# Altium schematic symbol library Sys_Arossage.SchLib: 31 symbols
Pins are listed as number, name and electrical type; pins without a type are passive.

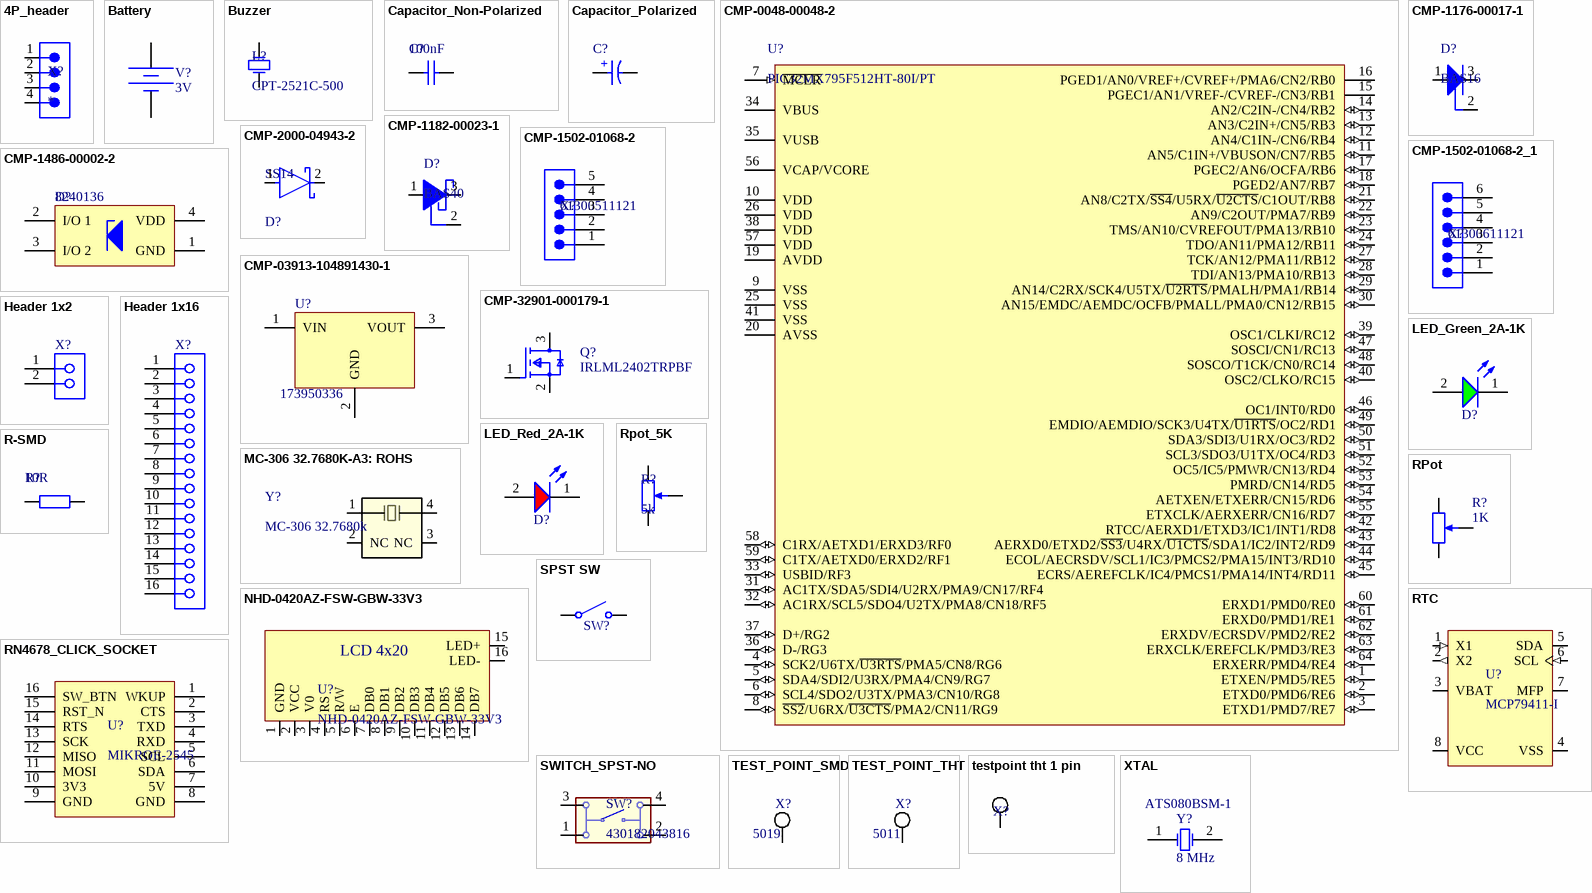
[diagram p0: symbols 4P_header to XTAL]

## 4P_header
designator X?
THT Vertical Pin Header WR-PHD, Pitch 2.54 mm, Single Row, 4 pins; Manufacturer: Wurth Electronics; Manufacturer Part Number: 61300411121; Current Rating: 3A; Operating Supply Voltage: 250V; Number of Positions: 4; Gender: Male; Contact Resistance: 20mR; Pitch: 0.1inch; Supplier: Rs; Supplier Part Number: 8281594P; RoHS: Yes; Category: Headers and Wire Housings; Stock: 2885; Pricing: 250=0.08, 500=0.078, 2500=0.076, 5000=0.074 (CHF); Mounting Technology: Through Hole; Contact Plating: Gold; Contact Material: Copper; Color: Black; Min Operating Temperature: -40°C; Max Operating Temperature: 105°C; Number of Rows: 1; Packaging: Bulk; Termination: Solder; Series: WR-PHD; Orientation: 5495OrientationType; Voltage Rating: 250V; Number of Contacts: 4; Contact Type: Male Pin; Height: 8.89mm; Contact Mating Length: 0.236inch; Lead Free: Lead Free; RoHS Compliant: Yes; Reach SVHC Compliant: Unknown; ComponentLink1URL: http://www.farnell.com/cad/1737268.pdf?src-supplier=Element14; ComponentLink1Description: http://www.farnell.com/cad/1737268.pdf?src-supplier=Element14; ComponentLink2URL: https://datasheet.octopart.com/61300411121-W%C3%BCrth-Elektronik-datasheet-21154836.pdf?src-supplier=Element14; ComponentLink2Description: https://datasheet.octopart.com/61300411121-W%C3%BCrth-Elektronik-datasheet-21154836.pdf?src-supplier=Element14; ComponentLink3URL: https://katalog.we-online.de/em/datasheet/6130xx11121.pdf?src-supplier=Digikey; ComponentLink3Description: https://katalog.we-online.de/em/datasheet/6130xx11121.pdf?src-supplier=Digikey
footprint 61300411121 (Pin Header, pitch 2.54 mm, THT, Vertical, single row, 4p)
pins: 1, 2, 3, 4

## Battery
designator V?, comment DC Magnitude: 3V  (hidden comment: Pile 3V)
SimulationGenericComponent: True
footprint BAT_BU2032SM-HD-G
pins: 1, 2

## Buzzer
designator L?, comment CPT-2521C-500
AUDIO PIEZO TRANSDUCER 50V CHAS; Manufacturer: CUI Devices; Supplier: Digikey; Supplier Part Number: 102-3756-ND; Manufacturer Part Number: CPT-2521C-500; RoHS: No; Category: Buzzers; Stock: 2415; Pricing: 1=5.57, 10=4.594, 30=4.23467, 60=3.97467, 90=3.72456, 450=3.29809 (USD); ComponentLink1URL: https://www.cuidevices.com/product/resource/digikeypdf/cpt-2521c-500.pdf?src-supplier=Digikey; ComponentLink1Description: https://www.cuidevices.com/product/resource/digikeypdf/cpt-2521c-500.pdf?src-supplier=Digikey
footprint 61300211121 (Pin Header, pitch 2.54 mm, THT, Vertical, single row, 2p)
pins: 1, 2

## Capacitor_Non-Polarized
designator C?, comment 100nF
Capacité: 100nF
footprint CAPC2013X145X48NL20T23 (Chip Capacitor, 2-Leads, Body 2.00x1.25mm, IPC Medium Density)
pins: 1, 2

## Capacitor_Polarized
designator C?
pins: 1 P, 2 N
text: +

## CMP-0048-00048-2
designator U?, comment PIC32MX795F512HT-80I/PT
High Performance 80 MHz MIPS-Based 32-Bit Flash Microcontroller with USB, CAN and Ethernet, 512KB Program Memory, 64-pin TQFP, Industrial Temperature, Tape and Reel; Code_JEDEC: MS-026; DatasheetVersion: revG, May-2011; ComponentLink1Description: Datasheet; PackageReference: TQFP-PT64; PackageVersion: revBB, Aug-2009; ComponentLink1URL: http://ww1.microchip.com/downloads/en/DeviceDoc/61156G.pdf; ComponentLink2URL: http://ww1.microchip.com/downloads/en/PackagingSpec/en012702.pdf; ComponentLink3Description: Microchip.com Home; RevisionNote: Component URLs added. DatasheetVersion updated. Pin names updated.; ComponentLink2Description: Packaging Specification; PackageDescription: 64-Lead Thin Plastic Quad Flat Pack (PT) - 10x10x1mm Body, 2.00mm [TQFP]; ComponentLink3URL: http://www.microchip.com/
footprint TQFP-PT64_L (Thin QFP, 64-Leads, Body 10x10mm, Pitch 0.5mm, IPC High Density)
pins: 1 ETXEN/PMD5/RE5 (io), 2 ETXD0/PMD6/RE6 (io), 3 ETXD1/PMD7/RE7 (io), 4 SCK2/U6TX/~{U3RTS}/PMA5/CN8/RG6 (io), 5 SDA4/SDI2/U3RX/PMA4/CN9/RG7 (io), 6 SCL4/SDO2/U3TX/PMA3/CN10/RG8 (io), 7 ~{MCLR} (in), 8 ~{SS2}/U6RX/~{U3CTS}/PMA2/CN11/RG9 (io), 9 VSS, 10 VDD, 11 AN5/C1IN+/VBUSON/CN7/RB5 (io), 12 AN4/C1IN-/CN6/RB4 (io), 13 AN3/C2IN+/CN5/RB3 (io), 14 AN2/C2IN-/CN4/RB2 (io), 15 PGEC1/AN1/VREF-/CVREF-/CN3/RB1 (power), 16 PGED1/AN0/VREF+/CVREF+/PMA6/CN2/RB0 (power), 17 PGEC2/AN6/OCFA/RB6 (io), 18 PGED2/AN7/RB7 (io), 19 AVDD, 20 AVSS, 21 AN8/C2TX/~{SS4}/U5RX/~{U2CTS}/C1OUT/RB8 (io), 22 AN9/C2OUT/PMA7/RB9 (io), 23 TMS/AN10/CVREFOUT/PMA13/RB10 (io), 24 TDO/AN11/PMA12/RB11 (io), 25 VSS, 26 VDD, 27 TCK/AN12/PMA11/RB12 (io), 28 TDI/AN13/PMA10/RB13 (io), 29 AN14/C2RX/SCK4/U5TX/~{U2RTS}/PMALH/PMA1/RB14 (io), 30 AN15/EMDC/AEMDC/OCFB/PMALL/PMA0/CN12/RB15 (io), 31 AC1TX/SDA5/SDI4/U2RX/PMA9/CN17/RF4 (io), 32 AC1RX/SCL5/SDO4/U2TX/PMA8/CN18/RF5 (io), 33 USBID/RF3 (io), 34 VBUS, 35 VUSB, 36 D-/RG3 (io), 37 D+/RG2 (io), 38 VDD, 39 OSC1/CLKI/RC12 (io), 40 OSC2/CLKO/RC15 (io), 41 VSS, 42 RTCC/AERXD1/ETXD3/IC1/INT1/RD8 (io), 43 AERXD0/ETXD2/~{SS3}/U4RX/~{U1CTS}/SDA1/IC2/INT2/RD9 (io), 44 ECOL/AECRSDV/SCL1/IC3/PMCS2/PMA15/INT3/RD10 (io), 45 ECRS/AEREFCLK/IC4/PMCS1/PMA14/INT4/RD11 (io), 46 OC1/INT0/RD0 (io), 47 SOSCI/CN1/RC13 (io), 48 SOSCO/T1CK/CN0/RC14 (io), 49 EMDIO/AEMDIO/SCK3/U4TX/~{U1RTS}/OC2/RD1 (io), 50 SDA3/SDI3/U1RX/OC3/RD2 (io), 51 SCL3/SDO3/U1TX/OC4/RD3 (io), 52 OC5/IC5/PMWR/CN13/RD4 (io), 53 PMRD/CN14/RD5 (io), 54 AETXEN/ETXERR/CN15/RD6 (io), 55 ETXCLK/AERXERR/CN16/RD7 (io), 56 VCAP/VCORE, 57 VDD, 58 C1RX/AETXD1/ERXD3/RF0 (io), 59 C1TX/AETXD0/ERXD2/RF1 (io), 60 ERXD1/PMD0/RE0 (io), 61 ERXD0/PMD1/RE1 (io), 62 ERXDV/ECRSDV/PMD2/RE2 (io), 63 ERXCLK/EREFCLK/PMD3/RE3 (io), 64 ERXERR/PMD4/RE4 (io)

## CMP-1176-00017-1
designator D?, comment BAS16
Silicon Switching Diode, SOT23, Reel, Green; Manufacturer: Infineon; VR (max): 80Â V; VBR (min): 85Â V; Configuration: Single; Green: TRUE; VF (max): 1.25Â V; trr (max): 4Â ns; IF (max): 250Â mA; IR (max): 100Â nA; ComponentLink3Description: Package Specification; PackageVersion: Apr-08; PackageReference: SOT23; ComponentLink2URL: http://www.infineon.com/dgdl/bas16series.pdf?folderId=db3a30431400ef6801141b5844e103ea&fileId=db3a30431400ef6801141b93811b03ff; Mounting Technology: Surface Mount; PartNumber: BAS16; ComponentLink2Description: Datasheet; ComponentLink1Description: Manufacturer URL; ComponentLink1URL: http://www.infineon.com/; ComponentLink3URL: http://www.infineon.com/dgdl/SOT23-Package_Overview.pdf?folderId=db3a30431936bc4b0119532290053c66&fileId=db3a30431936bc4b0119533468123c85; PackageDescription: 3-Pin Small Outline Transistor Package, 1.3 x 2.9 mm Body, 0.95 mm Pitch
footprint INF-SOT23_M (SOT23, 3-Leads, Body 2.9x1.3 mm, Pitch 0.95 mm, IPC Low Density)
pins: 1 A, 2 NC, 3 K

## CMP-1182-00023-1
designator D?, comment BAS40
Silicon Schottky Diode, -55 to 150 degC, SOT23, Reel, Green; Manufacturer: Infineon; IF (max): 120Â mA; Configuration: Single; VR (max): 40Â V; Green: TRUE; VF (max): 1,000Â mV; CT (max): 5Â pF; PackageDescription: 3-Pin Small Outline Transistor Package, 1.3 x 2.9 mm Body, 0.95 mm Pitch; ComponentLink3Description: Package Specification; Mounting Technology: Surface Mount; PackageVersion: Apr-08; ComponentLink1Description: Manufacturer URL; ComponentLink1URL: http://www.infineon.com/; ComponentLink2URL: http://www.infineon.com/dgdl/bas40_bas140series.pdf?folderId=db3a30431400ef68011425f1ca2505e3&fileId=db3a304314dca389011518a57ed20e11; PartNumber: BAS40; ComponentLink2Description: Datasheet; PackageReference: SOT23; ComponentLink3URL: http://www.infineon.com/dgdl/SOT23-Package_Overview.pdf?folderId=db3a30431936bc4b0119532290053c66&fileId=db3a30431936bc4b0119533468123c85; Packing: Reel
footprint INF-SOT23_M (SOT23, 3-Leads, Body 2.9x1.3 mm, Pitch 0.95 mm, IPC Low Density)
pins: 1 A, 2 NC, 3 K

## CMP-1486-00002-2
designator D?, comment 8240136
NexarPartId: 18190099; Max Breakdown Voltage: 4.5V; Number of Channels: 2; Max Reverse Leakage Current: 5A; Element Configuration: Dual; Capacitance: 3pF; Working Voltage: 3.3V; Max Surge Current: 12A; Power Line Protection: Yes; Clamping Voltage: 6V; Leakage Current: 5µA; Test Current: 1mA; Polarity: Bidirectional; Direction: Unidirectional; Operating Supply Voltage: 3.8V; Breakdown Voltage: 4.5V; Mount: Surface Mount; Height: 1.06mm; Min Operating Temperature: -55°C; Termination: SMD/SMT; Reverse Standoff Voltage: 3.3V; Case/Package: SOT-143; Length: 2.92mm; Min Breakdown Voltage: 4.5V; Peak Pulse Current: 12A; Max Operating Temperature: 125°C; REACH SVHC: Unknown; ESD Protection: Yes; RoHS: Compliant; Number of Pins: 4; Width: 2.4mm; Packaging: Digi-Reel®; Number of Bidirectional Channels: 2
footprint WE-TVS_SOT143-4L (TVS Diode, package SOT143-4L)
pins: 1 GND, 2 I/O 1, 3 I/O 2, 4 VDD

## CMP-1502-01068-2
designator X?, comment 61300511121
NexarPartId: 32855526; Operating Supply Voltage: 250V; Number of Contacts: 5; Connector Type: Male Pin; Current Rating: 3A; Contact Resistance: 20mΩ; Pitch: 2.54mm; Gender: Male; Termination: Solder; RoHS: Compliant; Lead Pitch: 2.54mm; Contact Mating Length: 5.9944mm; Number of Positions: 5; Lead Free: Lead Free; Contact Plating: Gold; Number of Pins: 5; Min Operating Temperature: -40°C; Voltage Rating: 250V; Color: Black; Mount: Through Hole; REACH SVHC: Unknown; Packaging: Bulk; Height: 8.89mm; Number of Rows: 1; Orientation: Vertical; Contact Material: Copper; Max Operating Temperature: 105°C
footprint 61300511121 (Pin Header, pitch 2.54 mm, THT, Vertical, single row, 5p)
pins: 1, 2, 3, 4, 5

## CMP-1502-01068-2_1
designator X?, comment 61300611121
THT Vertical Pin Header WR-PHD, Pitch 2.54 mm, Single Row, 6 pins; NexarPartId: 32855526; Manufacturer: Wurth Electronics; Operating Supply Voltage: 250V; Number of Contacts: 5; Connector Type: Male Pin; Current Rating: 3A; Contact Resistance: 20mΩ; Pitch: 2.54mm; Gender: Male; Termination: Solder; RoHS: Compliant; Lead Pitch: 2.54mm; Contact Mating Length: 5.9944mm; Number of Positions: 5; Lead Free: Lead Free; Contact Plating: Gold; Number of Pins: 5; Min Operating Temperature: -40°C; Voltage Rating: 250V; Color: Black; Mount: Through Hole; REACH SVHC: Unknown; Packaging: Bulk; Height: 8.89mm; Number of Rows: 1; Orientation: Vertical; Contact Material: Copper; Max Operating Temperature: 105°C; Supplier 1: Rs; Manufacturer Part Number: 61300611121; Category: Headers and Wire Housings; Stock 1: 2555; Pricing 1: 125=0,153, 500=0,149, 2500=0,147, 5000=0,141 (CHF); Housing Material: PBT; Contact Gender: Male; Series: WR-PHD; Contact Type: Male Pin; RoHS Compliant: Yes; Reach SVHC Compliant: Unknown; ComponentLink1URL: http://www.mouser.com/ds/2/445/6130xx11121-538006.pdf?src-supplier=Mouser; ComponentLink1Description: http://www.mouser.com/ds/2/445/6130xx11121-538006.pdf?src-supplier=Mouser; ComponentLink2URL: http://www.farnell.com/cad/1737268.pdf?src-supplier=Element14; ComponentLink2Description: http://www.farnell.com/cad/1737268.pdf?src-supplier=Element14; ComponentLink3URL: https://datasheet.octopart.com/61300611121-W%C3%BCrth-Elektronik-datasheet-21154836.pdf?src-supplier=Element14; ComponentLink3Description: https://datasheet.octopart.com/61300611121-W%C3%BCrth-Elektronik-datasheet-21154836.pdf?src-supplier=Element14; ComponentLink4URL: https://katalog.we-online.de/em/datasheet/6130xx11121.pdf?src-supplier=Digikey; ComponentLink4Description: https://katalog.we-online.de/em/datasheet/6130xx11121.pdf?src-supplier=Digikey
footprint 61300611121 (Pin Header, pitch 2.54 mm, THT, Vertical, single row, 6p)
pins: 1, 2, 3, 4, 5, 6

## CMP-2000-04943-2
designator D?, comment SS14
DIODE SCHOTTKY 40V 1A SMA; Manufacturer: ON Semiconductor; Peak Reverse Current: 0.2mA; Max Junction Temp: +125°C; Standoff Height: 0.05mm; Max Surge Forward Current: 40A; Mouser Description: Schottky Diodes & Rectifiers SMA 40V 1.0A; RoHS: TRUE; Lead Free: Yes; Manufacturer Part Number: SS14; Device Class L3: Schottky Diodes; Category: Diode; Automotive: No; Digikey Description: DIODE SCHOTTKY 40V 1A SMA; ComponentLink2Description: Datasheet; Device Class L2: Diodes; Height: 2.5mm; Temperature Range High: +125°C; ComponentLink2URL: https://www.onsemi.com/pub/Collateral/SS19-D.PDF; Device Class L1: Discrete Semiconductors; Package: 403AE; Octopart: https://octopart.com/ss14-on+semiconductor-29205033; Max Repetitive Reverse Voltage: 40V; Temperature Range Low: -65°C; Forward Current: 1A; Temperature: -65°C to +125°C
footprint FP-403AE-MFG
pins: 1 A, 2 C

## CMP-03913-104891430-1
designator U?, comment 173950336
173950336 WPME-FDSM Fixed Step Down Regulator Module; NexarPartId: 104891430; Manufacturer: Wurth Electronics; Output Current: 500mA; Max Switching Frequency: 520kHz; Min Input Voltage: 4.75V; Max Input Voltage: 36V; Max Output Voltage: 3.3V; Min Operating Temperature: -40°C; Height: 10.16mm; Ambient Temperature Range Low: -40°C; Max Operating Temperature: 125°C; Length: 11.6mm; Width: 7.55mm; Ambient Temperature Range High: 85°C; RoHS: Compliant; Manufacturer Part Number: 173950336
footprint WPME-FDSM_SIP-3_L11.6W7.55H10.16 (Fixed Step Down Regulator Module, SIP-3, body 11.60x7.55mm)
pins: 1 VIN, 2 GND, 3 VOUT

## CMP-32901-000179-1
designator Q?, comment IRLML2402TRPBF
MOSFET N-CH 20V 1.2A SOT-23; Manufacturer: Infineon; Max Power Dissipation: 540mW; Gate to Source Voltage (Vgs): 12V; Drain to Source Resistance: 350mR; Rise Time: 9.5ns; Threshold Voltage: 700mV; Turn-On Delay Time: 2.5ns; Input Capacitance: 110pF; Element Configuration: Single; Power Dissipation: 540W; Turn-Off Delay Time: 9.7ns; Rds On Max: 250mR; REACH SVHC: No SVHC; Mount: Surface Mount; Packaging: Tape and Reel; Height: 0.04inch; Drain to Source Voltage (Vdss): 20V; Length: 0.119inch; Contact Plating: Tin; Continuous Drain Current (ID): 1.2A; Lead Free: Lead Free; Drain to Source Breakdown Voltage: 20V; Max Dual Supply Voltage: 20V; Number of Pins: 3; Halogen Free: Halogen Free; Max Operating Temperature: 150°C; Case/Package: SOT-23; Min Operating Temperature: -55°C; Width: 0.055inch; Manufacturer Part Number: IRLML2402TRPBF
footprint FP-Micro3-IPC_C
pins: 1 G, 2 S, 3 D

## Header 1x2
designator X?
Conn Terminal Block 2 POS 3.5mm Solder ST Thru-Hole 10A Box; Manufacturer: Wurth Electronics; Manufacturer Part Number: 691214110002; Plating: Brass,Steel; Number of Levels: 1; Number of Positions Per Level: 2; Voltage: 300V; Wire Gauge (Max): 24AWG; Wire Gauge (Min): 16AWG; Stripping Length: -6mm; Supplier: Rs; Supplier Part Number: 8267295; RoHS: Yes; Category: Terminal Blocks; Stock: 313; Pricing: 1=0.924, 10=0.819, 50=0.756, 500=0.672, 1000=0.619 (CHF); Mounting Technology: Through Hole; Color: Blue,Green; Contact Plating: Brass,Tin; Housing Material: PA66; Contact Material: Brass; Min Operating Temperature: -40°C; Max Operating Temperature: 105°C; Current: 10A; Termination: Screw; Series: WR-TBL Series 2141; Voltage Rating: 300V; Current Rating: 10A; Number of Contacts: 2; Number of Rows: 1NUMBER; Length: 7.4mm; Width: 7.9mm; Height: 12.2mm; Wire/Cable Gauge: 24AWG; Pitch: 3.5mm; RoHS Compliant: Yes; Reach SVHC Compliant: Unknown; ComponentLink1URL: https://datasheet.ciiva.com/824/6912141100xx-824001.pdf?src-supplier=Digikey; ComponentLink1Description: https://datasheet.ciiva.com/824/6912141100xx-824001.pdf?src-supplier=Digikey; ComponentLink2URL: https://datasheet.ciiva.com/48693/001088618-da-01-en-wr-tbl-terminal-block2141-691214110002-48693195.pdf?src-supplier=Conrad; ComponentLink2Description: https://datasheet.ciiva.com/48693/001088618-da-01-en-wr-tbl-terminal-block2141-691214110002-48693195.pdf?src-supplier=Conrad
footprint 691214110002 (3.50 mm Horizontal Entry Modular, 2p)
pins: 1, 2

## Header 1x16
designator X?
Conn Header Vert 16POS 2.54MM; Manufacturer: Sullins; Manufacturer Part Number: PEC16SAHN; Number of Positions: 16; Gender: Male; Supplier: Digikey; Supplier Part Number: S1082E-16-ND; RoHS: Yes; Category: Connectors; Pricing: 1=1.81, 10=1.579, 100=1.4107, 500=1.17562, 1000=1.00767, 5000=0.95969 (USD); Mounting Technology: Through Hole; Housing Color: Black; Contact Material: Bronze; Housing Material: Plastic; Contact Shape: Square; Contact Finish - Mating: TIN; Insulation Material: PBT; Insulation Color: Black; Min Operating Temperature: -65°C; Max Operating Temperature: 125°C; Number of Rows: 1; Packaging: Bulk; Termination: Solder; Number of Contacts: 16; Contact Type: Male Pin; Series: -; Fastening Type: Pull; Length: 40.6mm; Width: 2.54mm; Height: 2.54mm; Lead Free: Lead Free; RoHS Compliant: Yes; Flammability Rating: UL94 V-0; ComponentLink1URL: http://www.sullinscorp.com/catalogs/77_PAGE108-109_.100_MALE_HDR.pdf?src-supplier=Digikey; ComponentLink1Description: http://www.sullinscorp.com/catalogs/77_PAGE108-109_.100_MALE_HDR.pdf?src-supplier=Digikey
pins: 1, 2, 3, 4, 5, 6, 7, 8, 9, 10, 11, 12, 13, 14, 15, 16

## LED_Green_2A-1K
designator D?  (value not drawn)
LED Uni-Color Green 515nm 2-Pin SMD T/R; Manufacturer: Kingbright; Manufacturer Part Number: APHCM2012ZGCK-F01; Lens Color: Colorless; Lens Style: Flat; Lens Transparency: Clear; Luminous Intensity: 350mcd; Forward Voltage: 3.3V; Test Current: 20mA; Viewing Angle: 110°; Dominant Wavelength: 525nm; Lens Size: 1.2mm; Supplier: Digikey; Supplier Part Number: 754-2120-1-ND; RoHS: Yes; Category: LEDs; Stock: 17088; Pricing: 1=0.51, 10=0.311, 100=0.1789, 1000=0.13999 (USD); Mounting Technology: Surface Mount; Case/Package: 0805; Color: Green; Case Code (Imperial): 0805; Case Code (Metric): 2012; Packaging: Cut Tape; Series: -; Length: 2mm; Width: 1.25mm; Height: 0.5mm; RoHS Compliant: Yes; ComponentLink1URL: http://www.kingbrightusa.com/images/catalog/SPEC/APHCM2012ZGCK-F01.pdf?src-supplier=Digikey; ComponentLink1Description: http://www.kingbrightusa.com/images/catalog/SPEC/APHCM2012ZGCK-F01.pdf?src-supplier=Digikey
footprint LEDC2012X75N
pins: 1 K, 2 A

## LED_Red_2A-1K
designator D?  (value not drawn)
LED Uni-Color Hyper Red 640nm 2-Pin Chip LED T/R; Manufacturer: Kingbright; Manufacturer Part Number: APT2012SECK/J3-PRV; Lens Color: Colorless; Forward Current: 20mA; Forward Voltage: 2.2V; Luminous Intensity: 350mcd; Viewing Angle: 120°; Lens Transparency: Clear; Dominant Wavelength: 625nm; Lens Style: Flat; Lens Size: 1.25mm; Supplier: Digikey; Supplier Part Number: 754-1791-1-ND; RoHS: Yes; Category: LEDs; Stock: 46358; Pricing: 1=0.6, 10=0.368, 100=0.2114, 1000=0.16544 (USD); Mounting Technology: Surface Mount; Case/Package: 0805; Case Code (Metric): 2012; Case Code (Imperial): 0805; Color: Red; Min Operating Temperature: -40°C; Max Operating Temperature: 85°C; Illumination Color: Red; Packaging: Tape and Reel; Package Quantity: 1; Test Current: 20mA; Series: HELI2; Length: 2mm; Width: 1.25mm; Height: 0.75mm; Lead Free: Lead Free; RoHS Compliant: Yes; ComponentLink1URL: https://datasheet.ciiva.com/24022/apt2012seck-j3-prv-262303-24022777.pdf?src-supplier=Mouser; ComponentLink1Description: https://datasheet.ciiva.com/24022/apt2012seck-j3-prv-262303-24022777.pdf?src-supplier=Mouser; ComponentLink2URL: https://datasheet.ciiva.com/29562/apt2012seck-j3-prv-29562108.pdf?src-supplier=Digikey; ComponentLink2Description: https://datasheet.ciiva.com/29562/apt2012seck-j3-prv-29562108.pdf?src-supplier=Digikey
footprint LEDC2012X75N
pins: 1 K, 2 A

## MC-306 32.7680K-A3: ROHS
designator Y?, comment MC-306 32.7680k
CRYSTAL 32.7680KHZ 12.5PF SMD; Mfr_Name: Epson; Manufacturer_Part_Number: MC-306 32.7680K-A3: ROHS; Manufacturer Part Number: MC-30632.7680K-A3:ROHS; Copyright: Copyright (C) 2024 Ultra Librarian. All rights reserved.; RefDes: RefDes; Type: DEV; Supplier: Digikey; Supplier Part Number: SER4306CT-ND; Manufacturer: Epson; RoHS: Yes; Category: Crystals; Stock: 10888; Pricing: 1=2.61, 10=2.545, 50=2.424, 100=2.121 (USD); ComponentLink1URL: https://datasheet.ciiva.com/26941/getdatasheetpartid-777847-26941728.pdf?src-supplier=Verical; ComponentLink1Description: https://datasheet.ciiva.com/26941/getdatasheetpartid-777847-26941728.pdf?src-supplier=Verical
footprint SOJ_MC-306_EPS-M
pins: 1, 2 NC, 3 NC, 4

## NHD-0420AZ-FSW-GBW-33V3
designator U?
Character Display STN Transflective 20Char x 4Line 16-Pin; Manufacturer: Newhaven Display; Supplier: Digikey; Supplier Part Number: NHD-0420AZ-FSW-GBW-33V3-ND; Manufacturer Part Number: NHD-0420AZ-FSW-GBW-33V3; RoHS: Yes; Stock: 4272; Pricing: 1=22, 5=20.68, 10=19.36, 50=18.26, 100=17.3801, 250=16.50004, 500=15.84006 (USD); ComponentLink1URL: https://datasheet.ciiva.com/2102/nhd-0420az-fsw-gbw-33v3-2102502.pdf?src-supplier=Digikey; ComponentLink1Description: https://datasheet.ciiva.com/2102/nhd-0420az-fsw-gbw-33v3-2102502.pdf?src-supplier=Digikey; ComponentLink2URL: https://datasheet.ciiva.com/30249/6nhd-0420az-fsw-gbw-33v3-30249785.pdf?src-supplier=Onlinecomponents.com; ComponentLink2Description: https://datasheet.ciiva.com/30249/6nhd-0420az-fsw-gbw-33v3-30249785.pdf?src-supplier=Onlinecomponents.com; ComponentLink3URL: https://datasheet.ciiva.com/24396/6nhd-0420az-fsw-gbw-33v3-24396711.pdf?src-supplier=Onlinecomponents.com; ComponentLink3Description: https://datasheet.ciiva.com/24396/6nhd-0420az-fsw-gbw-33v3-24396711.pdf?src-supplier=Onlinecomponents.com; ComponentLink4URL: https://datasheet.ciiva.com/49271/70518142-49271835.pdf?src-supplier=Allied+Electronics; ComponentLink4Description: https://datasheet.ciiva.com/49271/70518142-49271835.pdf?src-supplier=Allied+Electronics
footprint NHD-0420AZ-FSW-GBW-33V3
pins: 1 GND, 2 VCC, 3 V0, 4 RS, 5 R/W, 6 E, 7 DB0, 8 DB1, 9 DB2, 10 DB3, 11 DB4, 12 DB5, 13 DB6, 14 DB7, 15 LED+ "ANODE", 16 LED- "CATHODE"
text: LCD 4x20

## R-SMD
designator R?, comment 10R
SMD Chip Resistor, 10 kOhm, ± 1%, 125 mW, 0805 [2012 Metric], Thick Film, General Purpose; Manufacturer: Yageo; Manufacturer Part Number: RC0805FR-0710KL; Value: 10kR; Temperature Coefficient: 100ppm/°C; Power Rating: 125mW; Voltage Rating: 150V; Supplier: Rs; Supplier Part Number: 6185163; RoHS: Yes; Category: Chip SMD Resistors; Stock: 360000; Pricing: 1=24.917 (CHF); Case/Package: 0805; Case Code (Imperial): 0805; Case Code (Metric): 2012; Min Operating Temperature: -55°C; Max Operating Temperature: 155°C; Packaging: Tape and Reel; Tolerance: 1%; Resistor Type: Thick Film; Package Quantity: 1; Termination: SMD/SMT; Number of Terminations: 2; Max Power Dissipation: 125mW; Features: Moisture Resistant; Series: RC; Construction: Rectangular; Resistance Tolerance: 1%; Technology: THICK FILM; Voltage Rating (AC): 150V; Length: 0.079inch; Width: 0.049inch; Height: 0.024inch; Depth: 1.25mm; Lead Free: Lead Free; Reach SVHC Compliant: Unknown; Military Standard: Not; RoHS Compliant: Yes; ComponentLink1URL: https://datasheet.ciiva.com/11808/0900766b8106beab-11808151.pdf?src-supplier=Rs; ComponentLink1Description: https://datasheet.ciiva.com/11808/0900766b8106beab-11808151.pdf?src-supplier=Rs; ComponentLink2URL: https://datasheet.ciiva.com/46447/444164-46447563.pdf?src-supplier=Element14; ComponentLink2Description: https://datasheet.ciiva.com/46447/444164-46447563.pdf?src-supplier=Element14; ComponentLink3URL: https://datasheet.ciiva.com/2456/pyu-r-int-thick-7-2456973.pdf?src-supplier=Digikey; ComponentLink3Description: https://datasheet.ciiva.com/2456/pyu-r-int-thick-7-2456973.pdf?src-supplier=Digikey; ComponentLink4URL: https://datasheet.ciiva.com/2456/pyu-r-int-thick-7-2456974.pdf?src-supplier=Digikey; ComponentLink4Description: https://datasheet.ciiva.com/2456/pyu-r-int-thick-7-2456974.pdf?src-supplier=Digikey; ComponentLink5URL: https://datasheet.ciiva.com/2456/pyu-r-int-thick-7-2456972.pdf?src-supplier=Digikey; ComponentLink5Description: https://datasheet.ciiva.com/2456/pyu-r-int-thick-7-2456972.pdf?src-supplier=Digikey; ComponentLink6URL: https://datasheet.ciiva.com/12669/rc0805-12669688.pdf?src-supplier=Mouser; ComponentLink6Description: https://datasheet.ciiva.com/12669/rc0805-12669688.pdf?src-supplier=Mouser
footprint RESC2012X60N
pins: 1, 2

## RN4678_CLICK_SOCKET
designator U?, comment MIKROE-2545
RN4678 Click Bluetooth Communications Module; Manufacturer: mikroElektronika; Parameter 1: *; Supplier: Rs; Supplier Part Number: 1683004; Manufacturer Part Number: MIKROE-2545; RoHS: No; Category: RF Semiconductors and Devices; Stock: 16; Pricing: 1=37.013, 2=35.532, 5=33.947, 10=33.065, 25=32.256 (CHF); ComponentLink1URL: https://download.mikroe.com/documents/datasheets/bluetooth-4.2-dual-mode-module-datasheet.pdf?src-supplier=Digikey; ComponentLink1Description: https://download.mikroe.com/documents/datasheets/bluetooth-4.2-dual-mode-module-datasheet.pdf?src-supplier=Digikey
footprint RN4678 CLICK V3
pins: 1 WKUP, 2 CTS, 3 TXD, 4 RXD, 5 SCL, 6 SDA, 7 5V, 8 GND, 9 GND, 10 3V3, 11 MOSI, 12 MISO, 13 SCK, 14 RTS, 15 RST_N, 16 SW_BTN

## RPot
designator R?, comment 1K
In a Tube of 50, 1kO Through Hole Trimmer Potentiometer 0.5W Top Adjust Bourns 3362 Series; Manufacturer Part Number: 3362P-1-102LF; Manufacturer Series: 3362; Tolerance: 10%; Number of Turns: 1; Voltage Rating (AC): 300V; Power Rating: 500mW; Temperature Coefficient: 100ppm/°C; Resistance Law: Linear; Actuator Orientation: Vertical; Actuator Type: SCREW; Lead Diameter: 0.46mm; Resistance: 1kR; Published: 17-Dec-2003; DatasheetVersion: Oct-2003; PackageReference: POT4MM-2; Publisher: Altium Limited; PackageDescription: Square Trimming Potentiometer; ComponentLink1Description: Manufacturer Link; ComponentLink1URL: http://bourns.com/2/search.html; Supplier 1: Arrow Electronics; Manufacturer: Bourns; RoHS: Yes; Category: Variable Resistors and Potentiometers; Stock 1: 2500; Pricing 1: 250=0,5725, 500=0,5525, 1000=0,5024, 2500=0,4458, 10000=0,4425 (USD); Mount: Through Hole,PCB; Number of Pins: 3; Weight: 0.02oz; Terminal Finish: Tin; Color: 48Colour; Min Operating Temperature: -55°C; Max Operating Temperature: 125°C; Packaging: Rail/Tube; Resistor Type: Cermet; Termination: Pin; Series: Trimpot® 3362 - Sealed; Voltage Rating (DC): 300V; Voltage Rating: 300V; Taper: Linear; Max Power Dissipation: 500mW; Type: Potentiometer; Technology: CERMET; Resistance Tolerance: 10%; Package Quantity: 250; Length: 6.6mm; Width: 6.6mm; Height: 0.185inch; Depth: 6.99mm; Radiation Hardening: No; Reach SVHC Compliant: No; Military Standard: Not; Lead Free: Contains Lead; RoHS Compliant: Yes; ComponentLink2URL: https://datasheet.ciiva.com/11831/0900766b8069ccf8-11831281.pdf?src-supplier=Rs; ComponentLink2Description: https://datasheet.ciiva.com/11831/0900766b8069ccf8-11831281.pdf?src-supplier=Rs; ComponentLink3URL: https://datasheet.ciiva.com/19466/854663-19466804.pdf?src-supplier=Jameco; ComponentLink3Description: https://datasheet.ciiva.com/19466/854663-19466804.pdf?src-supplier=Jameco; ComponentLink4URL: https://datasheet.ciiva.com/29122/447329-da-01-en-trimmer-tht3362p-1-102lf-1k-0-5w-29122260.pdf?src-supplier=Conrad; ComponentLink4Description: https://datasheet.ciiva.com/29122/447329-da-01-en-trimmer-tht3362p-1-102lf-1k-0-5w-29122260.pdf?src-supplier=Conrad; ComponentLink5URL: https://datasheet.ciiva.com/14108/mk3362-dat-e-14108840.pdf?src-supplier=Distrelec; ComponentLink5Description: https://datasheet.ciiva.com/14108/mk3362-dat-e-14108840.pdf?src-supplier=Distrelec; ComponentLink6URL: https://datasheet.ciiva.com/3266/3362-3266298.pdf?src-supplier=Avnet; ComponentLink6Description: https://datasheet.ciiva.com/3266/3362-3266298.pdf?src-supplier=Avnet; ComponentLink7URL: https://datasheet.ciiva.com/2156/3362-2156394.pdf?src-supplier=Digikey; ComponentLink7Description: https://datasheet.ciiva.com/2156/3362-2156394.pdf?src-supplier=Digikey; ComponentLink8URL: https://datasheet.ciiva.com/30213/3362-30213113.pdf?src-supplier=Onlinecomponents.com; ComponentLink8Description: https://datasheet.ciiva.com/30213/3362-30213113.pdf?src-supplier=Onlinecomponents.com; ComponentLink9URL: https://datasheet.ciiva.com/16715/70153603-16715030.pdf?src-supplier=Allied+Electronics; ComponentLink9Description: https://datasheet.ciiva.com/16715/70153603-16715030.pdf?src-supplier=Allied+Electronics; Supplier Part Number 1: 3362P-1-102LF
footprint TRIM_3362P-1-1K
pins: 1 CCW, 2 W, 3 CW
1 alternate drawing of the same symbol

## Rpot_5K
designator R?, comment 5k
Cermet Not Linear VERTICAL Trimmer Potentiometer 卤10% 280deg 500mW 85C; Manufacturer: Bourns; Manufacturer Part Number: 3386P-1-502LF; Voltage Rating (AC): 300V; Supplier: Rs; Supplier Part Number: 5222772P; RoHS: Yes; Category: Variable Resistors and Potentiometers; Stock: 436; Pricing: 10=1.166, 100=1.029, 500=0.871, 1000=0.798 (CHF); ComponentLink1URL: https://datasheet.ciiva.com/11831/0900766b8069ccf9-11831043.pdf?src-supplier=Rs; ComponentLink1Description: https://datasheet.ciiva.com/11831/0900766b8069ccf9-11831043.pdf?src-supplier=Rs; ComponentLink2URL: https://datasheet.ciiva.com/27051/1158379-27051564.pdf?src-supplier=Jameco; ComponentLink2Description: https://datasheet.ciiva.com/27051/1158379-27051564.pdf?src-supplier=Jameco; ComponentLink3URL: https://datasheet.ciiva.com/29122/447392-da-01-en-trimmer-tht3386p-1-502lf-5k-0-5w-29122217.pdf?src-supplier=Conrad; ComponentLink3Description: https://datasheet.ciiva.com/29122/447392-da-01-en-trimmer-tht3386p-1-502lf-5k-0-5w-29122217.pdf?src-supplier=Conrad; ComponentLink4URL: https://datasheet.ciiva.com/2156/3386-2156421.pdf?src-supplier=Digikey; ComponentLink4Description: https://datasheet.ciiva.com/2156/3386-2156421.pdf?src-supplier=Digikey; ComponentLink5URL: https://datasheet.ciiva.com/5005/3386-21463-5005193.pdf?src-supplier=Mouser; ComponentLink5Description: https://datasheet.ciiva.com/5005/3386-21463-5005193.pdf?src-supplier=Mouser; ComponentLink6URL: https://datasheet.ciiva.com/14108/sa3386-dat-e-14108981.pdf?src-supplier=Distrelec; ComponentLink6Description: https://datasheet.ciiva.com/14108/sa3386-dat-e-14108981.pdf?src-supplier=Distrelec; ComponentLink7URL: https://datasheet.ciiva.com/16714/70153604-16714749.pdf?src-supplier=Allied+Electronics; ComponentLink7Description: https://datasheet.ciiva.com/16714/70153604-16714749.pdf?src-supplier=Allied+Electronics; ComponentLink8URL: https://datasheet.ciiva.com/7953/1815119-7953130.pdf?src-supplier=Element14; ComponentLink8Description: https://datasheet.ciiva.com/7953/1815119-7953130.pdf?src-supplier=Element14
footprint TRIM_3386P-1-502LF_5K
pins: 1 CCW, 2 W, 3 CW

## RTC
designator U?, comment MCP79411-I
Real Time Clock Serial 64byte Clock/Calendar/Alarm/Battery Backup Automotive 8-Pin SOIC N Tube; Manufacturer: Microchip; Manufacturer Part Number: MCP79411-I/SN; Supplier: Rs; Supplier Part Number: 7985267P; RoHS: Yes; Category: Real Time Clocks; Stock: 2150; Pricing: 30=1.264, 100=1.203 (CHF); ComponentLink1URL: https://datasheet.ciiva.com/8145/22266b-8145061.pdf?src-supplier=Avnet; ComponentLink1Description: https://datasheet.ciiva.com/8145/22266b-8145061.pdf?src-supplier=Avnet; ComponentLink2URL: https://datasheet.ciiva.com/6667/22266d-6667782.pdf?src-supplier=Digikey; ComponentLink2Description: https://datasheet.ciiva.com/6667/22266d-6667782.pdf?src-supplier=Digikey
footprint SOIC-SN8_M (SOIC, 8-Leads, Body 4.9x3.9mm, Pitch 1.27mm, IPC Low Density)
pins: 1 X1 (in), 2 X2 (out), 3 VBAT (power), 4 VSS, 5 SDA (io), 6 SCL (in), 7 MFP (oc), 8 VCC

## SPST SW
designator SW?, comment Single-Pole,Single-Throw Switch  (value not drawn)
closed: 0; Rclosed: 1m; Ropen: 1Meg; SimulationGenericComponent: True
footprint 61300211121 (Pin Header, pitch 2.54 mm, THT, Vertical, single row, 2p)
pins: 1, 2

## SWITCH_SPST-NO
designator SW?, comment 430182043816
Switch Tactile N.O. SPST Round Button Gull Wing 0.05A 12VDC 1000000Cycles 1.57N SMD Reel; Manufacturer: Wurth Electronics; Voltage Rating: 12V; Supplier: Rs; Supplier Part Number: 7856260; Manufacturer Part Number: 430182043816; RoHS: Yes; Category: Tactile Switches; Stock: 91; Pricing: 1=0.536, 10=0.483, 25=0.441, 50=0.399, 100=0.378 (CHF); Color: 46Colour; Contact Plating: 159ConductorMaterial; Diameter: 3.5mm; ComponentLink1URL: https://datasheet.ciiva.com/30466/0900766b8126d19d-30466797.pdf?src-supplier=Rs; ComponentLink1Description: https://datasheet.ciiva.com/30466/0900766b8126d19d-30466797.pdf?src-supplier=Rs; ComponentLink2URL: https://datasheet.ciiva.com/29189/711706-da-01-en-taster-430182043816-29189278.pdf?src-supplier=Conrad; ComponentLink2Description: https://datasheet.ciiva.com/29189/711706-da-01-en-taster-430182043816-29189278.pdf?src-supplier=Conrad; ComponentLink3URL: https://datasheet.ciiva.com/1532/4301x2-1532481.pdf?src-supplier=Element14; ComponentLink3Description: https://datasheet.ciiva.com/1532/4301x2-1532481.pdf?src-supplier=Element14
footprint SOIC_82043816_WRE-L
pins: 1, 2, 3, 4

## TEST_POINT_SMD
designator X?, comment 5019
Test Point, Mini, SMT, Phos Bronze/Silver, 1000pc Tape & Reel | Keystone Electronics 5019; IsStocked: True; PN: PN-926990; Value: 5011; Plating: Silver; Body Material: Bronze; Supplier 1: ETML; Manufacturer: Keystone; Manufacturer Number: 5011; Supplier Part Number 1: MAG.428.014; Category: Connectors; SubCategory: Testpoints; Supplier Price 1: 0.2439; Manufacturer: Keystone Electronics; Manufacturer Part Number: 5011; Component Type: Connectors; Supplier: Farnell; Supplier Part Number: 2529475; RoHS: Yes; Stock: 8402; Pricing: 1=0.331, 10=0.302, 25=0.274, 50=0.251, 100=0.227, 250=0.204 (CHF); Mounting Technology: Surface Mount,PCB; Pins: 1; Contact Plating: Silver; Material: Bronze; Contact Material: Bronze; Packaging: Tape and Reel; Package Quantity: 1; Termination: SMD/SMT; Series: 5019; Height: 0.09inch; Reach SVHC Compliant: No; Lead Free: Lead Free; RoHS Compliant: Yes; ComponentLink1URL: https://datasheet.ciiva.com/16318/m60-2p61-16318395.pdf?src-supplier=Future+Electronics; ComponentLink1Description: https://datasheet.ciiva.com/16318/m60-2p61-16318395.pdf?src-supplier=Future+Electronics; ComponentLink2URL: https://datasheet.ciiva.com/14848/m60-2p61-14848438.pdf?src-supplier=Digikey; ComponentLink2Description: https://datasheet.ciiva.com/14848/m60-2p61-14848438.pdf?src-supplier=Digikey; ComponentLink3URL: https://datasheet.ciiva.com/14848/m60-2p61-14848439.pdf?src-supplier=Digikey; ComponentLink3Description: https://datasheet.ciiva.com/14848/m60-2p61-14848439.pdf?src-supplier=Digikey; ComponentLink4URL: https://datasheet.ciiva.com/14848/m60-2p61-14848437.pdf?src-supplier=Digikey; ComponentLink4Description: https://datasheet.ciiva.com/14848/m60-2p61-14848437.pdf?src-supplier=Digikey; ComponentLink5URL: https://datasheet.ciiva.com/16885/70182998-16885945.pdf?src-supplier=Allied+Electronics; ComponentLink5Description: https://datasheet.ciiva.com/16885/70182998-16885945.pdf?src-supplier=Allied+Electronics
footprint KEYSTONE_5019
pins: 1 TP

## TEST_POINT_THT
designator X?, comment 5011
TEST POINT, PCB, THROUGH HOLE; Product R; Range: -; Connector Colour: Black; Mounting: Through Hole; Manufacturer: Keystone; Manufacturer: Keystone Electronics; IsStocked: True; PN: PN-926990; Supplier 1: ETML; Value: 5011; Manufacturer Number: 5011; Supplier Part Number 1: MAG.428.014; Category: Connectors; SubCategory: Testpoints; Supplier Price 1: 0.2439; Manufacturer Part Number: 5011; Component Type: Connectors; Supplier: Rs; Supplier Part Number: 2042652; RoHS: Yes; Stock: 1300; Pricing: 100=0.37, 500=0.359, 1000=0.35, 4000=0.34 (CHF); ComponentLink1URL: https://datasheet.ciiva.com/11744/0900766b8009b7c7-11744935.pdf?src-supplier=Rs; ComponentLink1Description: https://datasheet.ciiva.com/11744/0900766b8009b7c7-11744935.pdf?src-supplier=Rs; ComponentLink2URL: https://datasheet.ciiva.com/1454/1718230-1454834.pdf?src-supplier=Element14; ComponentLink2Description: https://datasheet.ciiva.com/1454/1718230-1454834.pdf?src-supplier=Element14; ComponentLink3URL: https://datasheet.ciiva.com/46412/1703983-46412138.pdf?src-supplier=Element14; ComponentLink3Description: https://datasheet.ciiva.com/46412/1703983-46412138.pdf?src-supplier=Element14; ComponentLink4URL: https://datasheet.ciiva.com/16351/m60-2p60-16351093.pdf?src-supplier=Future+Electronics; ComponentLink4Description: https://datasheet.ciiva.com/16351/m60-2p60-16351093.pdf?src-supplier=Future+Electronics; ComponentLink5URL: https://datasheet.ciiva.com/2917/5011-2917635.pdf?src-supplier=Digikey; ComponentLink5Description: https://datasheet.ciiva.com/2917/5011-2917635.pdf?src-supplier=Digikey
footprint Keystone_5011
pins: 1 TP

## testpoint tht 1 pin
designator X?  (value not drawn)
THT Vertical Pin Header WR-PHD, Pitch 2.54 mm, Single Row, 1 pins; Manufacturer: Wurth Electronics; Manufacturer Part Number: 61300111121; Number of Positions: 1; Gender: Male; Voltage Rating: 250V; Contact Resistance: 20mR; Current Rating: 3A; Supplier: Rs; Supplier Part Number: 8281588; RoHS: Yes; Category: Connectors; Stock: 1675; Pricing: 5=0.134, 250=0.071, 500=0.063, 1000=0.061, 2500=0.059 (CHF); Mounting Technology: Through Hole; Contact Plating: Gold; Contact Material: Copper Alloy,Copper; Contact Shape: Square; Contact Finish - Mating: GOLD; Insulation Material: Nylon; Insulation Color: Black; Min Operating Temperature: -40°C; Max Operating Temperature: 105°C; Number of Rows: 1; Termination: Solder; Number of Contacts: 1; Connector Type: Header; Fastening Type: Pull; Series: WR-PHD; Contact Type: Male Pin; Operating Supply Voltage: 250V; Orientation: 5495OrientationType; Lead Pitch: 2.54mm; RoHS Compliant: Yes; Flammability Rating: UL94 V-0; Reach SVHC Compliant: Unknown; ComponentLink1URL: http://www.farnell.com/cad/1737268.pdf?src-supplier=Element14; ComponentLink1Description: http://www.farnell.com/cad/1737268.pdf?src-supplier=Element14; ComponentLink2URL: https://datasheet.octopart.com/61300111121-W%C3%BCrth-Elektronik-datasheet-21154836.pdf?src-supplier=Element14; ComponentLink2Description: https://datasheet.octopart.com/61300111121-W%C3%BCrth-Elektronik-datasheet-21154836.pdf?src-supplier=Element14; ComponentLink3URL: https://katalog.we-online.de/em/datasheet/6130xx11121.pdf?src-supplier=Digikey; ComponentLink3Description: https://katalog.we-online.de/em/datasheet/6130xx11121.pdf?src-supplier=Digikey
footprint WURTH_61300111121
pins: 1 TP

## XTAL
designator Y?, comment 8 MHz  Supplier Part Number 1: ATS080BSM-1
Crystal 8MHz ±30ppm (Tol) ±50ppm (Stability) 18pF FUND 60Ohm 2-Pin HC-49/US SM SMD T/R; Manufacturer: CTS; Published: 8-Jun-2000; LatestRevisionDate: 17-Jul-2002; LatestRevisionNote: Re-released for DXP Platform.; PackageReference: R38; Publisher: Altium Limited; PackageDescription: Crystal, Thru-Hole; 2 Leads; Body 3.1 x 8.2 mm (Dia.xH); Supplier 1: Avnet; Manufacturer Part Number: ATS080BSM-1; RoHS: Yes; Category: Crystals; Stock 1: 10000; Pricing 1: 1000=0,14104, 2500=0,1386, 5000=0,13616, 10000=0,13372, 20000=0,13128 (USD); ComponentLink1URL: https://datasheet.ciiva.com/16413/008-0309-0-16413903.pdf?src-supplier=Future+Electronics; ComponentLink1Description: https://datasheet.ciiva.com/16413/008-0309-0-16413903.pdf?src-supplier=Future+Electronics; ComponentLink2URL: https://datasheet.ciiva.com/26926/getdatasheetpartid-488404-26926661.pdf?src-supplier=Verical; ComponentLink2Description: https://datasheet.ciiva.com/26926/getdatasheetpartid-488404-26926661.pdf?src-supplier=Verical; ComponentLink3URL: https://datasheet.ciiva.com/3176/008-0309-0-3176343.pdf?src-supplier=Avnet; ComponentLink3Description: https://datasheet.ciiva.com/3176/008-0309-0-3176343.pdf?src-supplier=Avnet; ComponentLink4URL: https://datasheet.ciiva.com/852/008-0309-0-852310.pdf?src-supplier=Digikey; ComponentLink4Description: https://datasheet.ciiva.com/852/008-0309-0-852310.pdf?src-supplier=Digikey; ComponentLink5URL: https://datasheet.ciiva.com/852/008-0309-0-852311.pdf?src-supplier=Digikey; ComponentLink5Description: https://datasheet.ciiva.com/852/008-0309-0-852311.pdf?src-supplier=Digikey; ComponentLink6URL: https://datasheet.ciiva.com/852/008-0309-0-852312.pdf?src-supplier=Digikey; ComponentLink6Description: https://datasheet.ciiva.com/852/008-0309-0-852312.pdf?src-supplier=Digikey
footprint ATS080BSM-1
pins: 1 OSC1, 2 OSC2